# Altium schematic symbol library HeatPress.SCHLIB: 22 symbols
Pins are listed as number, name and electrical type; pins without a type are passive.

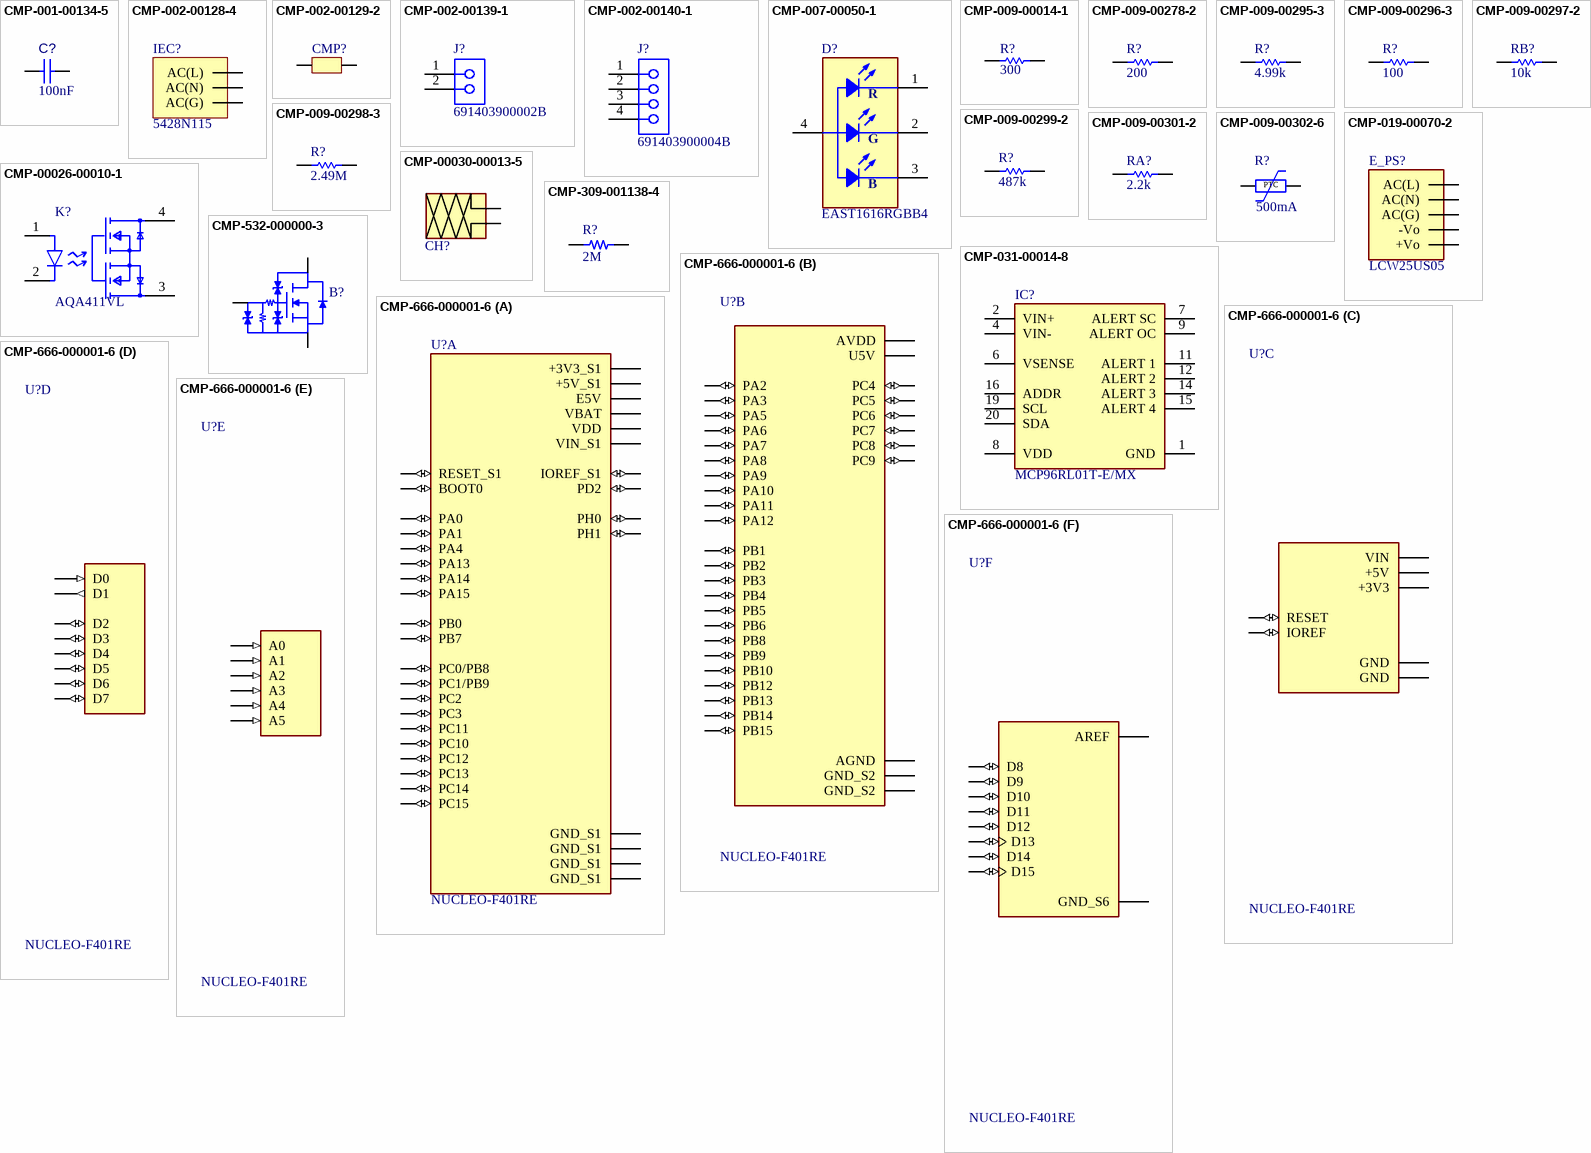
[diagram p0: symbols CMP-001-00134-5 to CMP-666-000001-6]

## CMP-001-00134-5
designator C?, comment value 100nF  (hidden comment: CL21B104KBCNNNC)
Ceramic Capacitor, Multilayer, Ceramic, 50V, 10% +Tol, 10% -Tol, X7R, 15% TC, 0.1uF, Surface Mount, 0805; Manufacturer: Samsung; Multilayer: Yes; Mounting Technology: Surface Mount; RoHS Compliant: Yes; Pins: 2; Capacitor Type: Ceramic; Min Operating Temperature: -55°C; Max Operating Temperature: 125°C; Case/Package: 0805; Dielectric Material: Ceramic; Height: 0.95mm; JESD-609 Code: e3; Length: 2mm; Package Shape: Rectangular; Package Style: SMTMeter; Packaging: Tape and Reel; Rated DC Voltage (URdc): 50V; Reach SVHC Compliant: Yes; Temperature Characteristics Code: X7R; Terminal Finish: Nickel; Termination: Wraparound; Tolerance  (fill in as +-): 10%; Tolerance (fill in as +-): 10%; Width: 1.25mm; Manufacturer Part Number: CL21B104KBCNNNC; Component Type: Capacitors
footprint FP-CL21-IPC_B
footprint FP-CL21-IPC_C
footprint FP-CL21-IPC_A
footprint CAP 0805_2012 (Chip Capacitor, 2-Leads, Body 2.00x1.20mm, IPC Medium Density)
pins: 1, 2

## CMP-002-00128-4
designator IEC?, comment 5428N115  (mechanical)
IEC Connector with Power Switch Screw on, C20, 20A UL, DPST-NO; Voltage Rating: 250V; Connector Type: C20; Max Current Rating: 20A; Pins: 3; ComponentLink1Description: Part Link; ComponentLink1URL: https://www.mcmaster.com/5428N115/
footprint 5428N115-Footprint-1
pins: 0 AC(L), 1 AC(N), 2 AC(G)

## CMP-002-00129-2
designator CMP?, comment 0192020054  (value not drawn)
Wire Terminal, 10.5mm2. Terminal Butt Splice, Inline, Individual Openings Connector Crimp 8 AWG Red; Manufacturer Series: 19202; Reach SVHC Compliant: Yes; RoHS Compliant: Yes; Terminal and Terminal Block Type: WIRE TERMINAL
footprint 0192020054-Footprint-1
pins: 0, 1

## CMP-002-00139-1
designator J?, comment 691403900002B
Barrier Strip Terminal Block; Manufacturer Series: 4039B; Terminal and Terminal Block Type: BARRIER STRIP TERMINAL BLOCK; Reach SVHC Compliant: Yes; RoHS Compliant: Yes
footprint 691403900002B (2,54mm - Spring clamp/Screwless - Vertical wire entry - 02p)
pins: 1, 2

## CMP-002-00140-1
designator J?, comment 691403900004B
Barrier Strip Terminal Block; Manufacturer Series: 4039B; Terminal and Terminal Block Type: BARRIER STRIP TERMINAL BLOCK; RoHS Compliant: Yes; Reach SVHC Compliant: Yes
footprint 691403900004B (2,54mm - Spring clamp/Screwless - Vertical wire entry - 04p)
pins: 1, 2, 3, 4

## CMP-007-00050-1
designator D?, comment EAST1616RGBB4
Triple Color LED; Manufacturer: Everlight; RoHS Compliant: Yes; Manufacturer Part Number: EAST1616RGBB4; Component Type: LED
footprint FP-EAST1616RGBB4-MFG
pins: 1 RED C, 2 GREEN C, 3 BLUE C, 4 COMMON ANODE
text: R; G; B

## CMP-009-00014-1
designator R?, comment value 300  (hidden comment: ERJ-6ENF3000V)
Fixed Resistor, Metal Glaze/thick Film, 0.125W, 300ohm, 150V, 1% +/-Tol, 100ppm/Cel, Surface Mount, 0805; Manufacturer: Panasonic; Temperature Coefficient: 100ppm/°C; Power: 125mW; Package Height: 0.6mm; Package Length: 2mm; Package Width: 1.25mm; Rated Temperature: 70°C; Reference Standard: AEC-Q200; Tolerance: 1%; Max Operating Temperature: 155°C; Pins: 2; Reach SVHC Compliant: Yes; Packaging: Tape and Reel; RoHS Compliant: Yes; Case/Package: 0805; Termination: Wraparound; Resistor Type: FIXED RESISTOR; Construction: Rectangular; Mounting Technology: Surface Mount; Min Operating Temperature: -55°C; JESD-609 Code: e3; Package Shape: Rectangular; Package Style: SMTMeter; Technology: METAL GLAZE/THICK FILM; Terminal Finish: Nickel; Working Voltage: 150V; Manufacturer Part Number: ERJ-6ENF3000V; Component Type: Resistors
footprint RES 0805_2012 (Chip Resistor, 2-Leads, Body 2.00x1.25mm, IPC Medium Density)
footprint RESC2013X70X40ML20T20 (Chip Resistor, 2-Leads, Body 2.00x1.25mm, IPC Low Density)
footprint RESC2013X70X40NL20T20 (Chip Resistor, 2-Leads, Body 2.2x1.35mm, IPC Medium Density)
footprint RESC2013X70X40LL20T20 (Chip Resistor, 2-Leads, Body 2.00x1.25mm, IPC High Density)
pins: 1, 2
1 alternate drawing of the same symbol

## CMP-009-00278-2
designator R?, comment value 200  (hidden comment: ERA-8AEB201V)
Res Thin Film 1206 200 Ohm 0.1% 1/4W ±25ppm/°C Molded SMD SMD Punched Carrier T/R; Manufacturer: Panasonic; Package Height: 0.6mm; Rated Temperature: 85°C; Working Voltage: 150V; Reference Standard: AEC-Q200; Package Length: 3.2mm; Power: 250mW; Package Width: 1.6mm; Max Operating Temperature: 155°C; Mounting Technology: Surface Mount; Temperature Coefficient: 25ppm/°C; Min Operating Temperature: -55°C; Termination: Wraparound; Tolerance: 0.1%; RoHS Compliant: Yes; Reach SVHC Compliant: Yes; Resistor Type: FIXED RESISTOR; Technology: THIN FILM; Case/Package: 1206; Construction: Rectangular; Package Style: SMTMeter; Terminal Finish: Nickel; JESD-609 Code: e3; Pins: 2; Packaging: Tape and Reel; Manufacturer Part Number: ERA-8AEB201V; Component Type: Resistors
footprint RES 1206_3216 (Chip Resistor, 2-Leads, Body 3.13x1.55mm, IPC Medium Density)
footprint RESC3216X70X50NL20T25 (Chip Resistor, 2-Leads, Body 3.20x1.60mm, IPC Medium Density)
footprint RESC3216X70X50ML20T25 (Chip Resistor, 2-Leads, Body 3.20x1.60mm, IPC Low Density)
footprint RESC3216X70X50LL20T25 (Chip Resistor, 2-Leads, Body 3.20x1.60mm, IPC High Density)
pins: 1, 2
1 alternate drawing of the same symbol

## CMP-009-00295-3
designator R?, comment value 4.99k  (hidden comment: ERJ-6ENF4991V)
Fixed Resistor, Metal Glaze/thick Film, 0.125W, 4990ohm, 150V, 1% +/-Tol, 100ppm/Cel, Surface Mount, 0805; Power: 125mW; Temperature Coefficient: 100ppm/°C; Package Length: 2mm; Package Width: 1.25mm; Rated Temperature: 70°C; Package Height: 0.6mm; Reference Standard: AEC-Q200; Tolerance: 1%; JESD-609 Code: e3; Resistor Type: FIXED RESISTOR; Construction: Rectangular; Case/Package: 0805; Reach SVHC Compliant: Yes; Max Operating Temperature: 155°C; Package Shape: Rectangular; RoHS Compliant: Yes; Packaging: Tape and Reel; Pins: 2; Package Style: SMTMeter; Min Operating Temperature: -55°C; Working Voltage: 150V; Termination: Wraparound; Technology: METAL GLAZE/THICK FILM; Mounting Technology: Surface Mount; Terminal Finish: Nickel
footprint FP-ERJ6EN-IPC_C
footprint FP-ERJ6EN-IPC_A
footprint FP-ERJ6EN-MFG
footprint FP-ERJ6EN-IPC_B
footprint RES 0805_2012 (Chip Resistor, 2-Leads, Body 2.00x1.25mm, IPC Medium Density)
pins: 1, 2
1 alternate drawing of the same symbol

## CMP-009-00296-3
designator R?, comment value 100  (hidden comment: CRG0805F100R)
Fixed Resistor, Metal Glaze/thick Film, 0.125W, 100ohm, 150V, 1% +/-Tol, 200ppm/Cel, Surface Mount, 0805; Manufacturer Series: CRG; Manufacturer: TE Connectivity; Temperature Coefficient: 200ppm/°C; Additional Feature: LASER TRIMMABLE; MF: {'manufacturer': u'TE Connectivity'}; Rated Temperature: 70°C; Power: 125mW; Max Operating Temperature: 125°C; Design Item ID: CRG0805F100R; Working Voltage: 150V; Technology: METAL GLAZE/THICK FILM; Tolerance: 1%; Price: None; JESD-609 Code: e3; Mounting Technology: Surface Mount; MP: CRG0805F100R; Terminal Finish: Tin; RoHS Compliant: Yes; Case/Package: 0805; Availability: Unavailable; Pins: 2; Min Operating Temperature: -55°C; Source: CRG0805F100R.SchLib; Termination: Wraparound; Resistor Type: FIXED RESISTOR; Packaging: Tape and Reel; Package Shape: Rectangular; Manufacturer Part Number: CRG0805F100R; Component Type: Resistors
footprint RES 0805_2012 (Chip Resistor, 2-Leads, Body 2.00x1.25mm, IPC Medium Density)
pins: 1, 2
1 alternate drawing of the same symbol

## CMP-009-00297-2
designator RB?, comment value 10k  (hidden comment: CRCW080510K0FKEAC)
Fixed Resistor, Metal Glaze/thick Film, 0.125W, 10000ohm, 150V, 1% +/-Tol, 100ppm/Cel, Surface Mount, 0805; Package Width: 1.25mm; Temperature Coefficient: -100100ppm/°C; Power: 125mW; Package Height: 0.5mm; Package Length: 2mm; Min Operating Temperature: -55°C; Resistor Type: FIXED RESISTOR; Package Style: SMTMeter; Tolerance: 1%; RoHS Compliant: Yes; Construction: Chip; Reach SVHC Compliant: Yes; Pins: 2; Packaging: Tape and Reel; Max Operating Temperature: 155°C; Technology: METAL GLAZE/THICK FILM; Case/Package: 0805; JESD-609 Code: e3; Working Voltage: 150V; Terminal Finish: Nickel
footprint FP-CRCW0805-Ce3-IPC_A
footprint FP-CRCW0805-Ce3-IPC_C
footprint FP-CRCW0805-Ce3-IPC_B
footprint FP-CRCW0805-Ce3-MFG
footprint RES 0805_2012 (Chip Resistor, 2-Leads, Body 2.00x1.25mm, IPC Medium Density)
pins: 1, 2
1 alternate drawing of the same symbol

## CMP-009-00298-3
designator R?, comment value 2.49M  (hidden comment: CRCW08052M49FKEA)
Fixed Resistor, Metal Glaze/thick Film, 0.125W, 2490000ohm, 150V, 1% +/-Tol, 100ppm/Cel, Surface Mount, 0805; Package Height: 0.45mm; Power: 125mW; Reference Standard: AEC-Q200; Package Length: 2mm; Package Width: 1.25mm; Rated Temperature: 70°C; Temperature Coefficient: 100ppm/°C; Termination: Wraparound; Working Voltage: 150V; Pins: 2; Min Operating Temperature: -55°C; RoHS Compliant: Yes; Terminal Finish: Nickel; Package Style: SMTMeter; Resistor Type: FIXED RESISTOR; Technology: METAL GLAZE/THICK FILM; Package Shape: Rectangular; Max Operating Temperature: 155°C; Reach SVHC Compliant: Yes; Case/Package: 0805; Tolerance: 1%; Packaging: Tape and Reel; Mounting Technology: Surface Mount; JESD-609 Code: e3; Construction: Chip
footprint RESC2013X50X30ML20T20 (Chip Resistor, 2-Leads, Body 2.00x1.25mm, IPC Low Density)
footprint RESC2013X50X30LL20T20 (Chip Resistor, 2-Leads, Body 2.00x1.25mm, IPC High Density)
footprint RESC2013X50X30NL20T20 (Chip Resistor, 2-Leads, Body 2.00x1.25mm, IPC Medium Density)
footprint RES 0805_2012 (Chip Resistor, 2-Leads, Body 2.00x1.25mm, IPC Medium Density)
pins: 1, 2
1 alternate drawing of the same symbol

## CMP-009-00299-2
designator R?, comment value 487k  (hidden comment: ERJ-6ENF4873V)
Fixed Resistor, Metal Glaze/thick Film, 0.125W, 487000ohm, 150V, 1% +/-Tol, 100ppm/Cel, Surface Mount, 0805; Package Length: 2mm; Power: 125mW; Temperature Coefficient: 100ppm/°C; Package Height: 0.6mm; Reference Standard: AEC-Q200; Package Width: 1.25mm; Rated Temperature: 70°C; Min Operating Temperature: -55°C; Mounting Technology: Surface Mount; Package Shape: Rectangular; Technology: METAL GLAZE/THICK FILM; Case/Package: 0805; Package Style: SMTMeter; Termination: Wraparound; Reach SVHC Compliant: Yes; Pins: 2; Working Voltage: 150V; Max Operating Temperature: 155°C; Tolerance: 1%; RoHS Compliant: Yes; JESD-609 Code: e3; Packaging: Tape and Reel; Terminal Finish: Nickel; Construction: Rectangular; Resistor Type: FIXED RESISTOR
footprint RESC2013X70X40NL20T20 (Chip Resistor, 2-Leads, Body 2.00x1.25mm, IPC Medium Density)
footprint RESC2013X70X40ML20T20 (Chip Resistor, 2-Leads, Body 2.00x1.25mm, IPC Low Density)
footprint RESC2013X70X40LL20T20 (Chip Resistor, 2-Leads, Body 2.00x1.25mm, IPC High Density)
footprint RES 0805_2012 (Chip Resistor, 2-Leads, Body 2.00x1.25mm, IPC Medium Density)
pins: 1, 2
1 alternate drawing of the same symbol

## CMP-009-00301-2
designator RA?, comment value 2.2k  (hidden comment: CRCW08052K20FKEAC)
Fixed Resistor, Metal Glaze/thick Film, 0.125W, 2200ohm, 150V, 1% +/-Tol, 100ppm/Cel, Surface Mount, 0805; Package Width: 1.25mm; Package Length: 2mm; Power: 125mW; Package Height: 0.5mm; Rated Temperature: 70°C; Reference Standard: AEC-Q200; Temperature Coefficient: -100100ppm/°C; Reach SVHC Compliant: Yes; Max Operating Temperature: 155°C; Mounting Technology: Surface Mount; JESD-609 Code: e3; Package Style: SMTMeter; Pins: 2; Resistor Type: FIXED RESISTOR; Working Voltage: 150V; RoHS Compliant: Yes; Case/Package: 0805; Packaging: Tape and Reel; Terminal Finish: Nickel; Min Operating Temperature: -55°C; Technology: METAL GLAZE/THICK FILM; Construction: Chip; Termination: Wraparound; Tolerance: 1%; Package Shape: Rectangular
footprint FP-CRCW0805-e3-IPC_A
footprint FP-CRCW0805-e3-IPC_B
footprint FP-CRCW0805-e3-MFG
footprint FP-CRCW0805-e3-IPC_C
footprint RES 0805_2012 (Chip Resistor, 2-Leads, Body 2.00x1.25mm, IPC Medium Density)
pins: 1, 2
1 alternate drawing of the same symbol

## CMP-009-00302-6
designator R?, comment 0ZCJ0050AF2E  (value not drawn)
PTC Resettable Fuse, 24V, 0.15ohm, Surface Mount; Package Length: 3.5mm; MF: {'manufacturer': u'Bel Fuse'}; Current Rating: 500mA; Value: 0.75; Package Width: 1.8mm; Package Height: 1.2mm; Reference Standard: UL; MP: 0ZCJ0050AF2E; Price: None; Reach SVHC Compliant: Yes; JESD-609 Code: e3; RoHS Compliant: Yes; Resistor Type: PTC THERMISTOR; Availability: Unavailable; Working Voltage: 24V; Max Operating Temperature: 85°C; Design Item ID: 0ZCJ0050AF2E; Source: 0ZCJ0050AF2E.SchLib; Terminal Finish: Tin; Case/Package: None; Min Operating Temperature: -40°C
footprint RESC3216X125N
pins: 1, 2
text: PTC

## CMP-019-00070-2
designator E_PS?, comment LCW25US05  (mechanical)
Power Supply, AC-DC, Enclosed, Industrial, 25W, 5V, LCW25 Series
footprint LCW25US12-Footprint-1
pins: 0 AC(L), 1 AC(N), 2 AC(G), 3 -Vo, 4 +Vo

## CMP-00026-00010-1
designator K?, comment AQA411VL
Relay Ssr 50MA 1.5V Dc-in 0.25A 40V Ac/dc-out 4-PIN SSOP T/r; Input Type: DC; Max Power Dissipation: 300mW; On-State Resistance: 1.25R; Isolation Voltage-Max: 1.5kV; Load Current: 250mA; Forward Current: 900uA; Throw Configuration: SPST; Lead Free: Lead Free; Max Operating Temperature: 85°C; Number of Pins: 4; Max Input Voltage: 1.5V; Max Input Current: 50mA; Series: PhotoMOS™ AQY; Output Voltage: 40V; Isolation Voltage: 1.5kV; Height: 1.8mm; Width: 2.65mm; Radiation Hardening: No; Packaging: Tape and Reel; Length: 4.45mm; Max Output Voltage: 40V; Mount: Surface Mount; Relay Type: Relay; RoHS Compliant: Yes; On-state Resistance-Max: 1.25R; Min Operating Temperature: -40°C; Output Current: 250mA; Input Current: 50mA; Case/Package: SSOP; Package Quantity: 1; Reach SVHC Compliant: Yes; Max Output Current: 250mA; Termination: SMD/SMT
footprint AQA411VL-Footprint-1
pins: 1 A, 2 C, 3 1 DRAIN, 4 2 DRAIN

## CMP-00030-00013-5
designator CH?, comment GCH  (value not drawn)
Generic cartridge heater; Pins: 2
footprint Generic Cartridge Heater-Footprint-1
pins: 0, 1

## CMP-031-00014-8
designator IC?, comment MCP96RL01T-E/MX
Fully integrated thermocouple Electromotive Force (EMF) to degrees Celsius converter IC with integrated thermocouple open-circuit and short-circuit detection and cold-junction compensation; Manufacturer_Name: Microchip; Manufacturer_Part_Number: MCP96RL01T-E/MX; Mouser Price/Stock: https://www.mouser.com/Search/Refine.aspx?Keyword=579-MCP96RL01T-E%2FMX; Design Item ID: MCP96RL01T-E_MX; Source: SamacSys.SchLib; Datasheet Link: http://ww1.microchip.com/downloads/en/DeviceDoc/MCP960X-L0X-RL0X-Data-Sheet-20005426F.pdf; Mouser Part Number: 579-MCP96RL01T-E/MX; Height: 1mm
footprint QFN65P500X500X100-21N-D; pin to pad 1>1+3+5+10+13+17+18+21
pins: 1 GND, 2 VIN+, 4 VIN-, 6 VSENSE, 7 ALERT SC, 8 VDD, 9 ALERT OC, 11 ALERT 1, 12 ALERT 2, 14 ALERT 3, 15 ALERT 4, 16 ADDR, 19 SCL, 20 SDA

## CMP-309-001138-4
designator R?, comment value 2M  (hidden comment: CRCW08052M00FKECC)
Fixed Resistor, Metal Glaze/thick Film, 0.125W, 2000000ohm, 150V, 1% +/-Tol, 100ppm/Cel, Surface Mount, 0805; Manufacturer: Vishay Dale; Manufacturer: Vishay; Package Height: 0.5mm; Power (Watts): 0.125W, 1/8W; Resistance: 2 MOhms; Package Length: 2mm; Power: 125mW; Package Width: 1.25mm; Temperature Coefficient: -100100ppm/°C; ComponentLink1Description: Datasheet; Series: CRCW-C; Package / Case: 0805 (2012 Metric); Case/Package: 0805; Number of Terminations: 2; Size / Dimension: 0.079" L x 0.049" W (2.00mm x 1.25mm); ComponentLink1URL: http://www.vishay.com/docs/28773/crcwce3.pdf; Lifecycle Status: Active; Device Package: 0805 (2012 Metric); Pins: 2; RoHS Compliant: Yes; Supplier Device Package: 0805; ComponentLink2Description: DigiKey Link; Resistor Type: FIXED RESISTOR; LastUpdated: 9/18/2022 12:42:15 PM; Construction: Chip; JESD-609 Code: e3; Technology: METAL GLAZE/THICK FILM; Working Voltage: 150V; Package Style: SMTMeter; Part Number: CRCW08052M00FKECC; Height - Seated (Max): 0.024" (0.60mm); Terminal Finish: Nickel; Packaging: Tape and Reel; Price: 0.01; Composition: Thick Film; PartId: 30004; Reach SVHC Compliant: Yes; Part Status: Active; Operating Temperature: -55°C ~ 155°C; Min Operating Temperature: -55°C; Max Operating Temperature: 155°C; Tolerance: 1%; ComponentLink2URL: https://www.digikey.com/en/products/detail/vishay-dale/CRCW08052M00FKECC/7928551; Minimum Order: 1; Manufacturer Part Number: CRCW08052M00FKECC; Component Type: Resistors
footprint RES 0805_2012 (Chip Resistor, 2-Leads, Body 2.00x1.25mm, IPC Medium Density)
pins: 1, 2

## CMP-532-000000-3
designator B?, comment SSM3K357R,LF  (value not drawn)
Trans MOSFET N-CH Si 60V 0.65A Automotive 3-Pin SOT-23F T/R; Source: SSM3K357R,LF.SchLib; Design Item ID: SSM3K357R,LF
footprint SOTFL95P240X88-3N
pins: 1 G, 2 S, 3 D

## CMP-666-000001-6
designator U?, comment NUCLEO-F401RE
STM32F401RE Embedded Nucleo STM32F4 MCU 32-Bit ARM Cortex-M3 Evaluation Board; MF: STMicroelectronics; Design Item ID: NUCLEO-F401RE; Source: NUCLEO-F401RE.SchLib; MP: NUCLEO-F401RE
footprint ST_NUCLEO-F401RE
part A pins: CN7_1 PC10 (io), CN7_2 PC11 (io), CN7_3 PC12 (io), CN7_4 PD2 (io), CN7_5 VDD (power), CN7_6 E5V (power), CN7_7 BOOT0 (io), CN7_8 GND_S1 (power), CN7_12 IOREF_S1 (io), CN7_13 PA13 (io), CN7_14 RESET_S1 (io), CN7_15 PA14 (io), CN7_16 +3V3_S1 (power), CN7_17 PA15 (io), CN7_18 +5V_S1 (power), CN7_19 GND_S1 (power), CN7_20 GND_S1 (power), CN7_21 PB7 (io), CN7_22 GND_S1 (power), CN7_23 PC13 (io), CN7_24 VIN_S1 (power), CN7_25 PC14 (io), CN7_27 PC15 (io), CN7_28 PA0 (io), CN7_29 PH0 (io), CN7_30 PA1 (io), CN7_31 PH1 (io), CN7_32 PA4 (io), CN7_33 VBAT (power), CN7_34 PB0 (io), CN7_35 PC2 (io), CN7_36 PC1/PB9 (io), CN7_37 PC3 (io), CN7_38 PC0/PB8 (io)
part B pins: CN10_1 PC9 (io), CN10_2 PC8 (io), CN10_3 PB8 (io), CN10_4 PC6 (io), CN10_5 PB9 (io), CN10_6 PC5 (io), CN10_7 AVDD (power), CN10_8 U5V (power), CN10_9 GND_S2 (power), CN10_11 PA5 (io), CN10_12 PA12 (io), CN10_13 PA6 (io), CN10_14 PA11 (io), CN10_15 PA7 (io), CN10_16 PB12 (io), CN10_17 PB6 (io), CN10_19 PC7 (io), CN10_20 GND_S2 (power), CN10_21 PA9 (io), CN10_22 PB2 (io), CN10_23 PA8 (io), CN10_24 PB1 (io), CN10_25 PB10 (io), CN10_26 PB15 (io), CN10_27 PB4 (io), CN10_28 PB14 (io), CN10_29 PB5 (io), CN10_30 PB13 (io), CN10_31 PB3 (io), CN10_32 AGND (power), CN10_33 PA10 (io), CN10_34 PC4 (io), CN10_35 PA2 (io), CN10_37 PA3 (io)
part C pins: CN6_2 IOREF (io), CN6_3 RESET (io), CN6_4 +3V3 (power), CN6_5 +5V (power), CN6_6 GND (power), CN6_7 GND (power), CN6_8 VIN (power)
part D pins: CN9_1 D0 (in), CN9_2 D1 (out), CN9_3 D2 (io), CN9_4 D3 (io), CN9_5 D4 (io), CN9_6 D5 (io), CN9_7 D6 (io), CN9_8 D7 (io)
part E pins: CN8_1 A0 (in), CN8_2 A1 (in), CN8_3 A2 (in), CN8_4 A3 (in), CN8_5 A4 (in), CN8_6 A5 (in)
part F pins: CN5_1 D8 (io), CN5_2 D9 (io), CN5_3 D10 (io), CN5_4 D11 (io), CN5_5 D12 (io), CN5_6 D13 (io), CN5_7 GND_S6 (power), CN5_8 AREF (power), CN5_9 D14 (io), CN5_10 D15 (io)